# EAGLE library part BME280 (library BME280)
Board Mount Humidity Sensors Source: Datasheet <https://datasheet.datasheetarchive.com/originals/distributors/DKDS-24/462906.pdf>
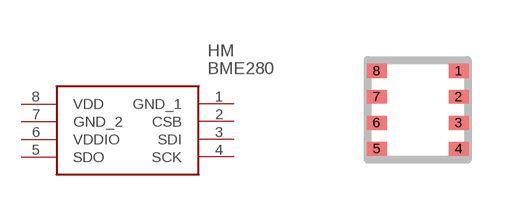
[diagram p0: symbol with the pads of BME280; footprint BME280]

Designator prefix HM

## BME280 (Description: Board Mount Humidity Sensors; Height: mm; Manufacturer_Name: BOSCH; Manufacturer_Part_Number: BME280; Mouser_Part_Number: 262-BME280; Mouser_Price-Stock: https://www.mouser.co.uk/ProductDetail/Bosch-Sensortec/BME280?qs=2OnyuXx6vpj2fK9HX7qb3g%3D%3D)  [BME280]
1  GND_1  pwr
2  CSB  in
3  SDI
4  SCK
5  SDO
6  VDDIO  pwr
7  GND_2  pwr
8  VDD  pwr

## Footprint BME280 (pad centres in mm)
BME280
smd 0.5 x 0.35: 1 2.05,0; 2 2.05,-0.65; 3 2.05,-1.3; 4 2.05,-1.95; 5 0,-1.95; 6 0,-1.3; 7 0,-0.65; 8 0,0